# Altium footprint library 61300811121.PcbLib: 1 footprints
Each footprint in its own frame and in the unit in brackets; x right, y up, seen from the top. Pads: shape width x height; smd on the part's side, far side on the other; paste and mask are expansions set on the pad; w line width, h text height; cw(c..) or ccw(c..) is an arc to the next point about the centre after c.
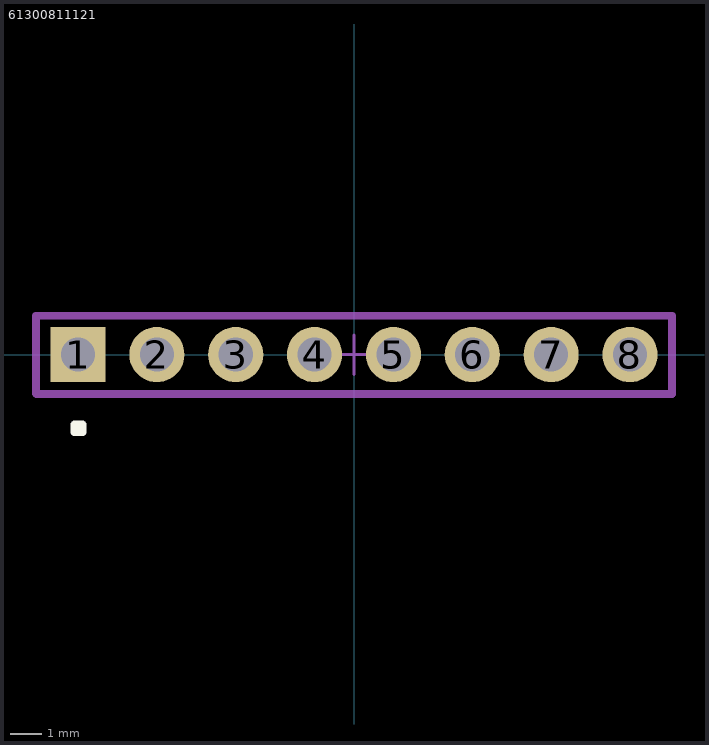
[diagram p0: the footprint, top view; thin cyan lines are the x and y axes]

## 61300811121 [mil]
height 236.22
pads (8):
  rect 70x70 hole 43.31: 1(-350,0)
  round 70 hole 43.31: 2(-250,0) 3(-150,0) 4(-50,0) 5(50,0) 6(150,0) 7(250,0) 8(350,0)
Top Overlay:
  lines w10: -354.33,-98.43 -354.33,-88.58 -344.49,-88.58 -344.49,-98.43 -354.33,-98.43
Mechanical 13:
  lines w10: -403.54,-49.21 -402.76,-50 403.54,-50 403.54,49.21 -403.54,49.21 -403.54,-49.21
Mechanical 15:
  lines w3.94: 0,0 25,0 0,0 ; 0,0 0,25 0,-25 0,0 ; 0,0 -25,0 0,0
3D body "61300811121.stp": height 286.22, standoff -168.11, extent -400,-49.21 400,50.79